# EAGLE library part ATTINY88 (library Tag Reader)
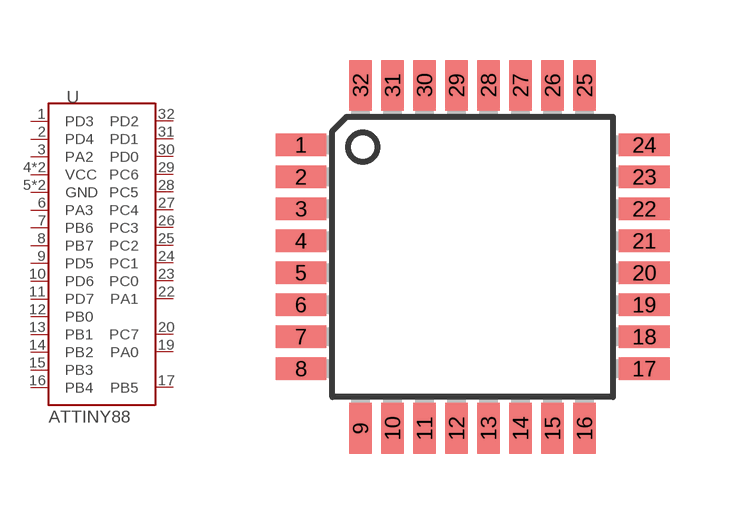
[diagram p0: symbol with the pads of 32-TQFP; footprint 32-TQFP]

Designator prefix U

## ATTINY88  [32-TQFP]
1  PD3
2  PD4
3  PA2
4  VCC
5  GND
6  PA3
7  PB6
8  PB7
9  PD5
10  PD6
11  PD7
12  PB0
13  PB1
14  PB2
15  PB3
16  PB4
17  PB5
18  VCC
19  PA0
20  PC7
21  GND
22  PA1
23  PC0
24  PC1
25  PC2
26  PC3
27  PC4
28  PC5
29  PC6
30  PD0
31  PD1
32  PD2

## Footprint 32-TQFP (pad centres in mm)
smd 1.27 x 0.559: 1 -3.023,2.8; 2 -3.023,2; 3 -3.023,1.2; 4 -3.023,0.4; 5 -3.023,-0.4; 6 -3.023,-1.2; 7 -3.023,-2; 8 -3.023,-2.8; 17 5.563,-2.8; 18 5.563,-2; 19 5.563,-1.2; 20 5.563,-0.4; 21 5.563,0.4; 22 5.563,1.2; 23 5.563,2; 24 5.563,2.8
smd 0.559 x 1.27: 9 -1.53,-4.293; 10 -0.73,-4.293; 11 0.07,-4.293; 12 0.87,-4.293; 13 1.67,-4.293; 14 2.47,-4.293; 15 3.27,-4.293; 16 4.07,-4.293; 25 4.07,4.293; 26 3.27,4.293; 27 2.47,4.293; 28 1.67,4.293; 29 0.87,4.293; 30 0.07,4.293; 31 -0.73,4.293; 32 -1.53,4.293